# Altium footprint library 4153.20-6.PcbLib: 1 footprints
Each footprint in its own frame and in the unit in brackets; x right, y up, seen from the top. Pads: shape width x height; smd on the part's side, far side on the other; paste and mask are expansions set on the pad; w line width, h text height; cw(c..) or ccw(c..) is an arc to the next point about the centre after c.
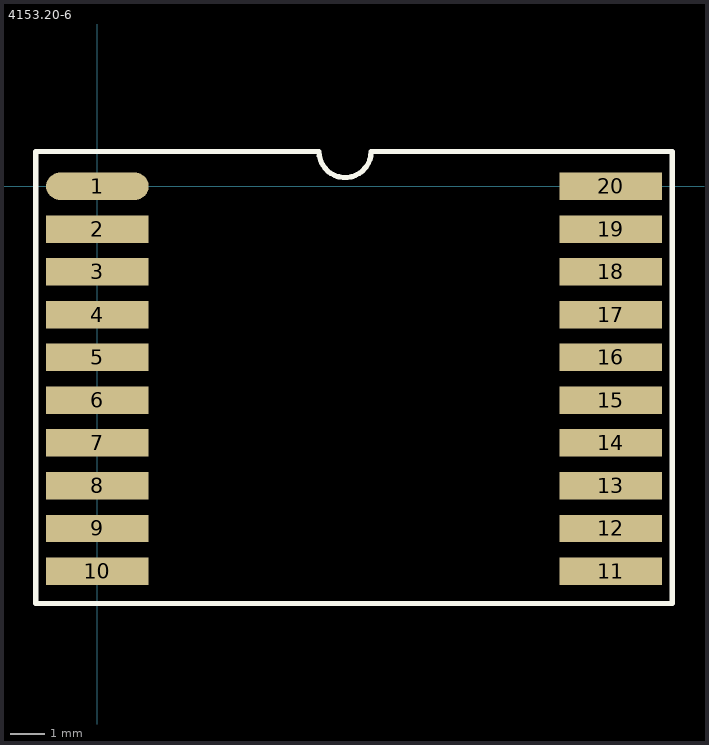
[diagram p0: the footprint, top view; thin cyan lines are the x and y axes]

## 4153.20-6 [mm]
height 3
pads (20):
  oval 3x0.8 smd: 1(0,0)
  rect 3x0.8 smd: 2(0,-1.25) 3(0,-2.5) 4(0,-3.75) 5(0,-5) 6(0,-6.25) 7(0,-7.5) 8(0,-8.75) 9(0,-10) 10(0,-11.25) 11(15,-11.25) 12(15,-10) 13(15,-8.75) 14(15,-7.5) 15(15,-6.25) 16(15,-5) 17(15,-3.75) 18(15,-2.5) 19(15,-1.25) 20(15,0)
TopOverlay:
  lines w0.152: -1.8,-12.192 16.8,-12.192 16.8,1.016 8.001,1.016 cw(c7.239,1.016) 6.477,1.016 -1.8,1.016 -1.8,-12.192
3D body "4153.20-6.step": height 3.04, standoff 0, extent -1.25,-12.1 16.25,0.9